# Altium integrated library TPS7A4700RGWR.IntLib: 1 symbol
Pins are listed as number, name and electrical type; pins without a type are passive.

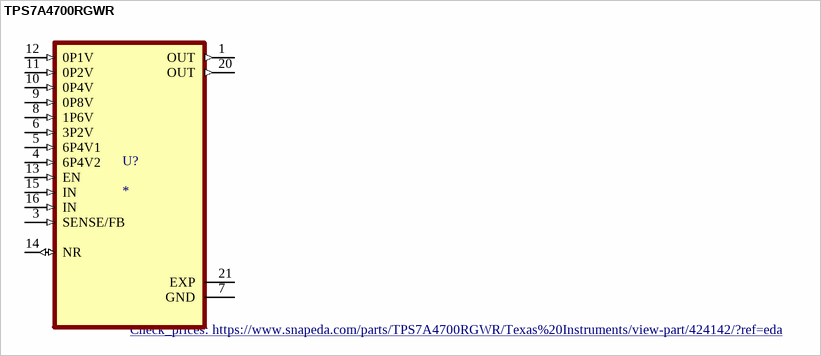
[diagram p0: symbol TPS7A4700RGWR]

## TPS7A4700RGWR
designator U?
1-A, 36-V, low-noise, high-PSRR, low-dropout voltage regulator with enable 20-VQFN -40 to 125; MF: Texas Instruments; MP: TPS7A4700RGWR; SnapEDA_Link: https://www.snapeda.com/parts/TPS7A4700RGWR/Texas%20Instruments/view-part/424142/?ref=snap; Availability: Good; Value: *; Purchase-URL: https://pricing.snapeda.com/search/part/TPS7A4700RGWR/?ref=eda; Package: VQFN-20 Texas Instruments; Price: None; Check_prices: https://www.snapeda.com/parts/TPS7A4700RGWR/Texas%20Instruments/view-part/424142/?ref=eda
footprint QFN65P500X500X100-21N
pins: 1 OUT (out), 3 SENSE/FB (in), 4 6P4V2 (in), 5 6P4V1 (in), 6 3P2V (in), 7 GND (power), 8 1P6V (in), 9 0P8V (in), 10 0P4V (in), 11 0P2V (in), 12 0P1V (in), 13 EN (in), 14 NR (io), 15 IN (in), 16 IN (in), 20 OUT (out), 21 EXP (power)